# Altium integrated library NSC Interface.IntLib: 1288 symbols (part 11 of 45)
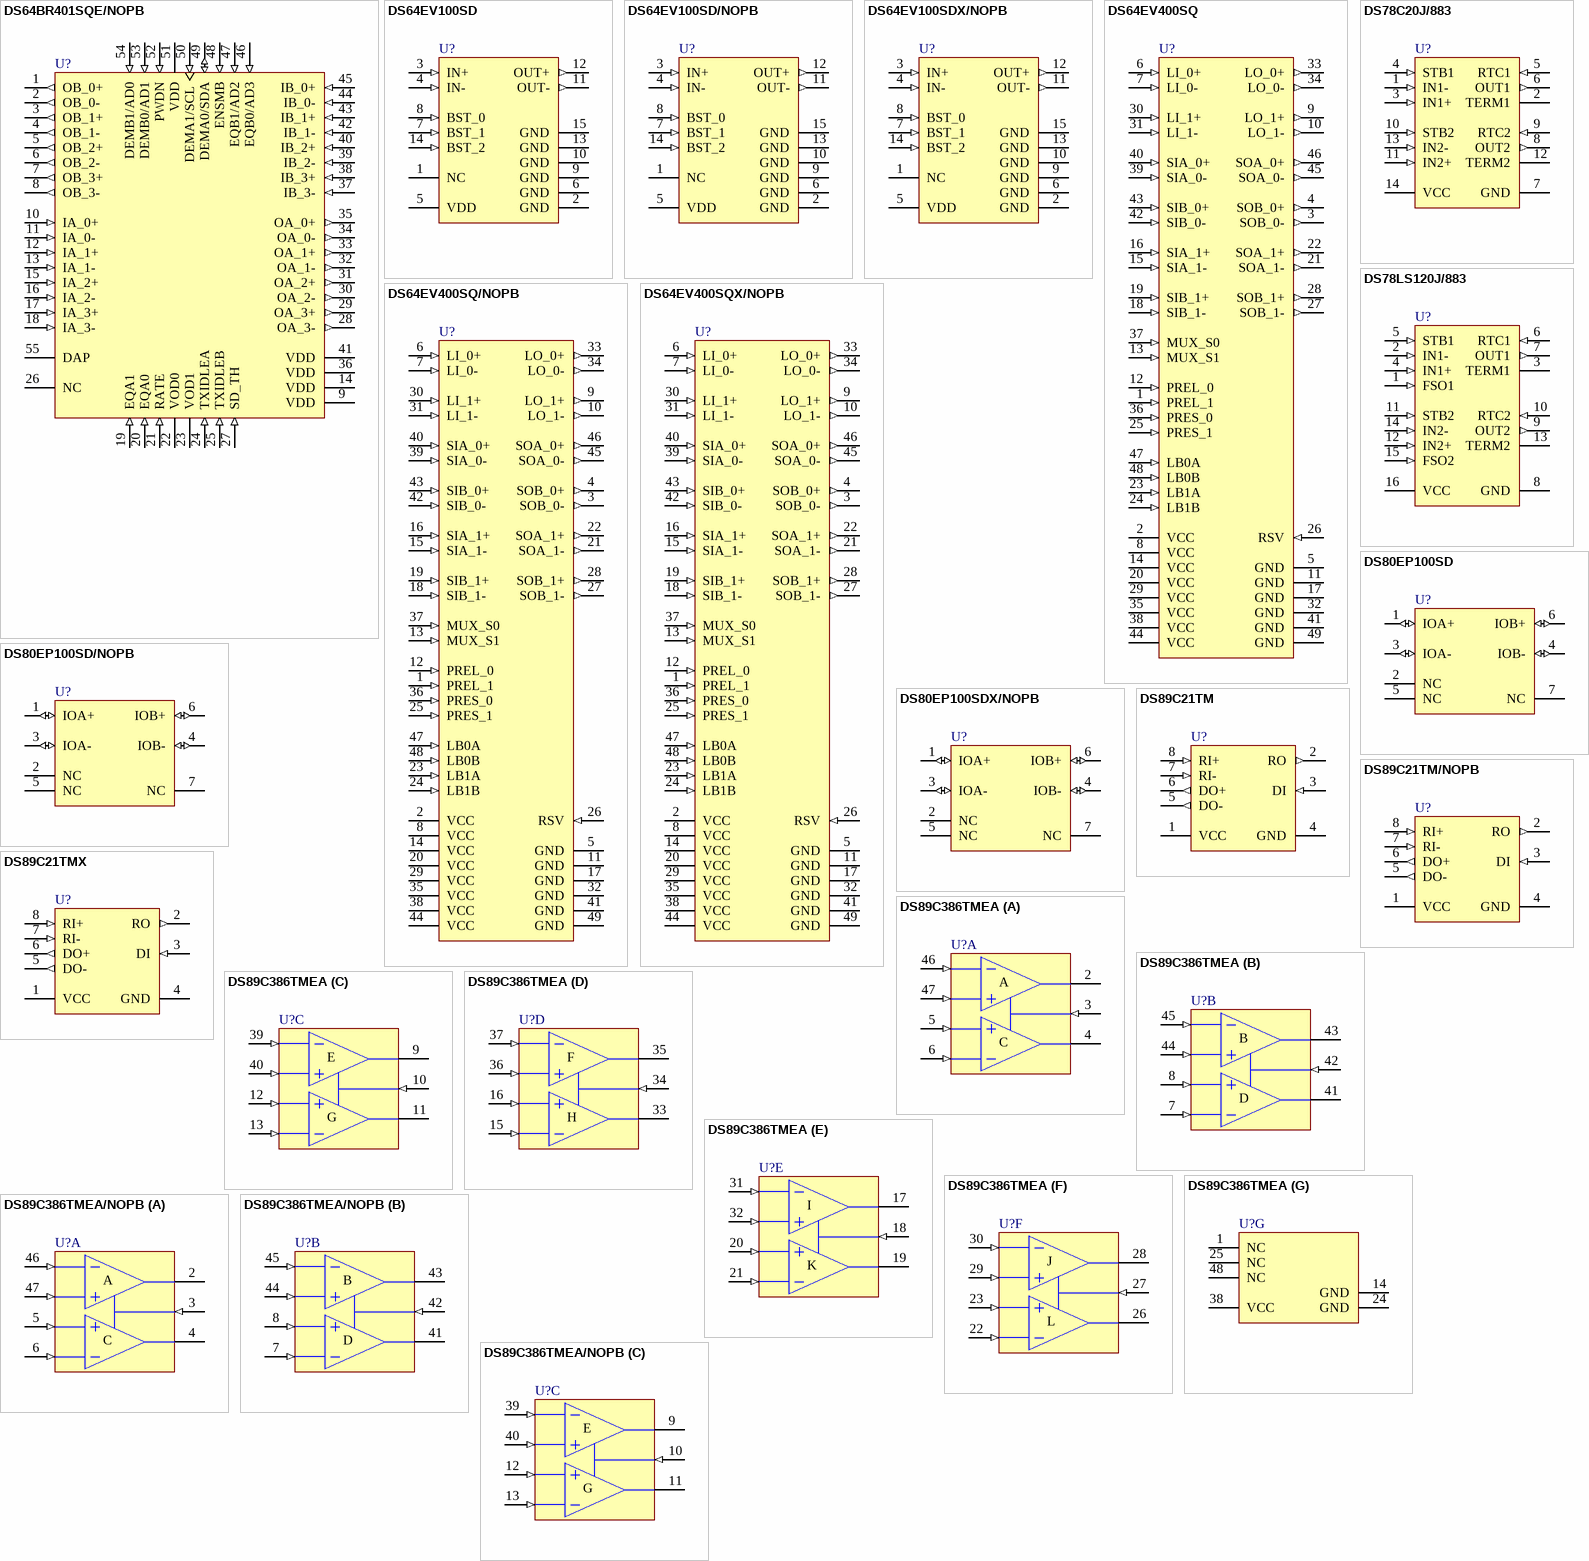
[diagram p122: symbols DS64BR401SQE/NOPB to DS89C386TMEA/NOPB]

## DS64EV400SQ
designator U?
Programmable Quad Equalizer, 48-pin LLP; PartNumber: DS64EV400SQ; Manufacturer: National Semiconductor; PackageTopMarking: NS*UZXYTT*DS64EV400; PowerWise: Y; CompType: Interface IC; Published: 4-Dec-2008; DatasheetVersion: Apr-2008; PackageVersion: revA, Jul-2004; PackageReference: SQA48D; Publisher: Altium Limited; PackageDescription: LLP, Quad, 7 x 7 x 0.8mm, 48 Lead, 0.5mm Pitch, 4.1 x 4.1 Exposed Pad; RoHS: Y; PinCount: 48; ComponentLink1Description: DS64EV400 Datasheet; ComponentLink1URL: http://www.national.com/ds/DS/DS64EV400.pdf; ComponentLink2Description: DS64EV400 Web Page; ComponentLink2URL: http://www.national.com/pf/DS/DS64EV400.html; ComponentLink3Description: SQA48D Package Page; ComponentLink3URL: http://www.national.com/packaging/folders/sqa48d.html
footprint SQA48D (QFN, 48-Leads, Body 7x7mm, Pitch 0.5mm, NSC Recommended)
pins: 1 PREL_1 (in), 2 VCC (power), 3 SOB_0- (out), 4 SOB_0+ (out), 5 GND (power), 6 LI_0+ (in), 7 LI_0- (in), 8 VCC (power), 9 LO_1+ (out), 10 LO_1- (out), 11 GND (power), 12 PREL_0 (in), 13 MUX_S1 (in), 14 VCC (power), 15 SIA_1- (in), 16 SIA_1+ (in), 17 GND (power), 18 SIB_1- (in), 19 SIB_1+ (in), 20 VCC (power), 21 SOA_1- (out), 22 SOA_1+ (out), 23 LB1A (in), 24 LB1B (in), 25 PRES_1 (in), 26 RSV (in), 27 SOB_1- (out), 28 SOB_1+ (out), 29 VCC (power), 30 LI_1+ (in), 31 LI_1- (in), 32 GND (power), 33 LO_0+ (out), 34 LO_0- (out), 35 VCC (power), 36 PRES_0 (in), 37 MUX_S0 (in), 38 VCC (power), 39 SIA_0- (in), 40 SIA_0+ (in), 41 GND (power), 42 SIB_0- (in), 43 SIB_0+ (in), 44 VCC (power), 45 SOA_0- (out), 46 SOA_0+ (out), 47 LB0A (in), 48 LB0B (in), 49 GND (power)

## DS64EV400SQ/NOPB
designator U?
Programmable Quad Equalizer, 48-pin LLP, Pb-Free; PartNumber: DS64EV400SQ/NOPB; Manufacturer: National Semiconductor; PackageTopMarking: NS*UZXYTTE#*DS64EV400; PowerWise: Y; CompType: Interface IC; Published: 1-Mar-2010; DatasheetVersion: Apr-2008; PackageVersion: revA, Jul-2004; PackageReference: SQA48D; Publisher: Altium Limited; PackageDescription: LLP, Quad, 7 x 7 x 0.8mm, 48 Lead, 0.5mm Pitch, 4.1 x 4.1 Exposed Pad; Supplier 1: Digi-Key; Supplier Part Number 1: DS64EV400SQTR-ND; Supplier 2: Digi-Key; Supplier Part Number 2: DS64EV400SQCT-ND; Supplier 3: Digi-Key; Supplier Part Number 3: DS64EV400SQDKR-ND; Supplier 4: Farnell; Supplier Part Number 4: 1685567; RoHS: Y; PinCount: 48; ComponentLink1Description: DS64EV400 Datasheet; ComponentLink1URL: http://www.national.com/ds/DS/DS64EV400.pdf; ComponentLink2Description: DS64EV400 Web Page; ComponentLink2URL: http://www.national.com/pf/DS/DS64EV400.html; ComponentLink3Description: SQA48D Package Page; ComponentLink3URL: http://www.national.com/packaging/folders/sqa48d.html
footprint SQA48D (QFN, 48-Leads, Body 7x7mm, Pitch 0.5mm, NSC Recommended)
pins: 1 PREL_1 (in), 2 VCC (power), 3 SOB_0- (out), 4 SOB_0+ (out), 5 GND (power), 6 LI_0+ (in), 7 LI_0- (in), 8 VCC (power), 9 LO_1+ (out), 10 LO_1- (out), 11 GND (power), 12 PREL_0 (in), 13 MUX_S1 (in), 14 VCC (power), 15 SIA_1- (in), 16 SIA_1+ (in), 17 GND (power), 18 SIB_1- (in), 19 SIB_1+ (in), 20 VCC (power), 21 SOA_1- (out), 22 SOA_1+ (out), 23 LB1A (in), 24 LB1B (in), 25 PRES_1 (in), 26 RSV (in), 27 SOB_1- (out), 28 SOB_1+ (out), 29 VCC (power), 30 LI_1+ (in), 31 LI_1- (in), 32 GND (power), 33 LO_0+ (out), 34 LO_0- (out), 35 VCC (power), 36 PRES_0 (in), 37 MUX_S0 (in), 38 VCC (power), 39 SIA_0- (in), 40 SIA_0+ (in), 41 GND (power), 42 SIB_0- (in), 43 SIB_0+ (in), 44 VCC (power), 45 SOA_0- (out), 46 SOA_0+ (out), 47 LB0A (in), 48 LB0B (in), 49 GND (power)

## DS64EV400SQX/NOPB
designator U?
Programmable Quad Equalizer, 48-pin LLP, Pb-Free; PartNumber: DS64EV400SQX/NOPB; Manufacturer: National Semiconductor; PackageTopMarking: NS*UZXYTTE#*DS64EV400; PowerWise: Y; CompType: Interface IC; Published: 1-Mar-2010; DatasheetVersion: Apr-2008; PackageVersion: revA, Jul-2004; PackageReference: SQA48D; Publisher: Altium Limited; PackageDescription: LLP, Quad, 7 x 7 x 0.8mm, 48 Lead, 0.5mm Pitch, 4.1 x 4.1 Exposed Pad; Supplier 1: Digi-Key; Supplier Part Number 1: DS64EV400SQX-ND; RoHS: Y; PinCount: 48; ComponentLink1Description: DS64EV400 Datasheet; ComponentLink1URL: http://www.national.com/ds/DS/DS64EV400.pdf; ComponentLink2Description: DS64EV400 Web Page; ComponentLink2URL: http://www.national.com/pf/DS/DS64EV400.html; ComponentLink3Description: SQA48D Package Page; ComponentLink3URL: http://www.national.com/packaging/folders/sqa48d.html
footprint SQA48D (QFN, 48-Leads, Body 7x7mm, Pitch 0.5mm, NSC Recommended)
pins: 1 PREL_1 (in), 2 VCC (power), 3 SOB_0- (out), 4 SOB_0+ (out), 5 GND (power), 6 LI_0+ (in), 7 LI_0- (in), 8 VCC (power), 9 LO_1+ (out), 10 LO_1- (out), 11 GND (power), 12 PREL_0 (in), 13 MUX_S1 (in), 14 VCC (power), 15 SIA_1- (in), 16 SIA_1+ (in), 17 GND (power), 18 SIB_1- (in), 19 SIB_1+ (in), 20 VCC (power), 21 SOA_1- (out), 22 SOA_1+ (out), 23 LB1A (in), 24 LB1B (in), 25 PRES_1 (in), 26 RSV (in), 27 SOB_1- (out), 28 SOB_1+ (out), 29 VCC (power), 30 LI_1+ (in), 31 LI_1- (in), 32 GND (power), 33 LO_0+ (out), 34 LO_0- (out), 35 VCC (power), 36 PRES_0 (in), 37 MUX_S0 (in), 38 VCC (power), 39 SIA_0- (in), 40 SIA_0+ (in), 41 GND (power), 42 SIB_0- (in), 43 SIB_0+ (in), 44 VCC (power), 45 SOA_0- (out), 46 SOA_0+ (out), 47 LB0A (in), 48 LB0B (in), 49 GND (power)

## DS78C20J/883
designator U?
Dual CMOS Compatible Differential Line Receiver, 14-pin CerDIP; PartNumber: DS78C20J/883; Manufacturer: National Semiconductor; PackageTopMarking: NSZSSXXYYA*DS78C20J/883 Q*5962-9321101MCA; PowerWise: N; CompType: Interface IC; High-Reliability: Y; Published: 4-Dec-2008; DatasheetVersion: May-1998; PackageVersion: revJ, Jul-2002; PackageReference: J14A; Publisher: Altium Limited; PackageDescription: Cerdip, .400 x .310in Body, 14 Lead, .300in Centers, .100in Pitch; RoHS: N; PinCount: 14; ComponentLink1Description: DS78C20 Datasheet; ComponentLink1URL: http://www.national.com/ds/DS/DS78C20.pdf; ComponentLink2Description: DS78C20 Web Page; ComponentLink2URL: http://www.national.com/pf/DS/DS78C20.html; ComponentLink3Description: J14A Package Page; ComponentLink3URL: http://www.national.com/packaging/folders/j14a.html
footprint J14A (DIP, 14-Leads, Row Spacing 7.62mm, Pitch 2.54mm, Body 19.56x6.73mm)
pins: 1 IN1- (in), 2 TERM1, 3 IN1+ (in), 4 STB1 (in), 5 RTC1 (in), 6 OUT1 (out), 7 GND (power), 8 OUT2 (out), 9 RTC2 (in), 10 STB2 (in), 11 IN2+ (in), 12 TERM2, 13 IN2- (in), 14 VCC (power)

## DS78LS120J/883
designator U?
Dual Differential Line Receiver (Noise Filtering and Fail-Safe), 16-pin CerDIP; PartNumber: DS78LS120J/883; Manufacturer: National Semiconductor; PackageTopMarking: NSZSSXXYYA*DS78LS120J/883 Q; PowerWise: N; CompType: Interface IC; High-Reliability: Y; Published: 4-Dec-2008; DatasheetVersion: Sep-1999; PackageVersion: revL, Sep-1993; PackageReference: J16A; Publisher: Altium Limited; PackageDescription: Cerdip (J), 16 Lead; RoHS: N; PinCount: 16; ComponentLink1Description: DS78LS120 Datasheet; ComponentLink1URL: http://www.national.com/ds/DS/DS78LS120.pdf; ComponentLink2Description: DS78LS120 Web Page; ComponentLink2URL: http://www.national.com/pf/DS/DS78LS120.html; ComponentLink3Description: J16A Package Page; ComponentLink3URL: http://www.national.com/packaging/folders/j16a.html
footprint J16A (DIP, 16-Leads, Row Spacing 7.62mm, Pitch 2.54mm, Body 19.56x6.73mm)
pins: 1 FSO1 (in), 2 IN1- (in), 3 TERM1, 4 IN1+ (in), 5 STB1 (in), 6 RTC1 (in), 7 OUT1 (out), 8 GND (power), 9 OUT2 (out), 10 RTC2 (in), 11 STB2 (in), 12 IN2+ (in), 13 TERM2, 14 IN2- (in), 15 FSO2 (in), 16 VCC (power)

## DS80EP100SD
designator U?
5 to 12.5 Gbps, Power-Saver Equalizer for Backplanes and Cables, 6-pin LLP; PartNumber: DS80EP100SD; Manufacturer: National Semiconductor; PackageTopMarking: XTT*80S; PowerWise: Y; CompType: Interface IC; Published: 4-Dec-2008; DatasheetVersion: May-2008; PackageVersion: revA, Nov-2003; PackageReference: SDB06A; Publisher: Altium Limited; PackageDescription: LLP, Plastic, Dual, 2.2 x 2.5 x 0.8mm Body, 6 Lead, 0.65mm Pitch, No Pullback; RoHS: Y; PinCount: 6; ComponentLink1Description: DS80EP100 Datasheet; ComponentLink1URL: http://www.national.com/ds/DS/DS80EP100.pdf; ComponentLink2Description: DS80EP100 Web Page; ComponentLink2URL: http://www.national.com/pf/DS/DS80EP100.html; ComponentLink3Description: SDB06A Package Page; ComponentLink3URL: http://www.national.com/packaging/folders/sdb06a.html
footprint SDB06A (SON, 6-Leads, Body 2.2x2.5mm, Pitch 0.65mm, NSC Recommended (SC-70 Land))
pins: 1 IOA+ (io), 2 NC, 3 IOA- (io), 4 IOB- (io), 5 NC, 6 IOB+ (io), 7 NC

## DS80EP100SD/NOPB
designator U?
5 to 12.5 Gbps, Power-Saver Equalizer for Backplanes and Cables, 6-pin LLP, Pb-Free; PartNumber: DS80EP100SD/NOPB; Manufacturer: National Semiconductor; PackageTopMarking: XTT*80S; PowerWise: Y; CompType: Interface IC; Published: 1-Mar-2010; DatasheetVersion: May-2008; PackageVersion: revA, Nov-2003; PackageReference: SDB06A; Publisher: Altium Limited; PackageDescription: LLP, Plastic, Dual, 2.2 x 2.5 x 0.8mm Body, 6 Lead, 0.65mm Pitch, No Pullback; Supplier 1: Digi-Key; Supplier Part Number 1: DS80EP100SDTR-ND; Supplier 2: Digi-Key; Supplier Part Number 2: DS80EP100SDCT-ND; Supplier 3: Digi-Key; Supplier Part Number 3: DS80EP100SDDKR-ND; RoHS: Y; PinCount: 6; ComponentLink1Description: DS80EP100 Datasheet; ComponentLink1URL: http://www.national.com/ds/DS/DS80EP100.pdf; ComponentLink2Description: DS80EP100 Web Page; ComponentLink2URL: http://www.national.com/pf/DS/DS80EP100.html; ComponentLink3Description: SDB06A Package Page; ComponentLink3URL: http://www.national.com/packaging/folders/sdb06a.html
footprint SDB06A (SON, 6-Leads, Body 2.2x2.5mm, Pitch 0.65mm, NSC Recommended (SC-70 Land))
pins: 1 IOA+ (io), 2 NC, 3 IOA- (io), 4 IOB- (io), 5 NC, 6 IOB+ (io), 7 NC

## DS80EP100SDX/NOPB
designator U?
5 to 12.5 Gbps, Power-Saver Equalizer for Backplanes and Cables, 6-pin LLP, Pb-Free; PartNumber: DS80EP100SDX/NOPB; Manufacturer: National Semiconductor; PackageTopMarking: XTT*80S; PowerWise: Y; CompType: Interface IC; Published: 1-Mar-2010; DatasheetVersion: May-2008; PackageVersion: revA, Nov-2003; PackageReference: SDB06A; Publisher: Altium Limited; PackageDescription: LLP, Plastic, Dual, 2.2 x 2.5 x 0.8mm Body, 6 Lead, 0.65mm Pitch, No Pullback; Supplier 1: Digi-Key; Supplier Part Number 1: DS80EP100SDX-ND; RoHS: Y; PinCount: 6; ComponentLink1Description: DS80EP100 Datasheet; ComponentLink1URL: http://www.national.com/ds/DS/DS80EP100.pdf; ComponentLink2Description: DS80EP100 Web Page; ComponentLink2URL: http://www.national.com/pf/DS/DS80EP100.html; ComponentLink3Description: SDB06A Package Page; ComponentLink3URL: http://www.national.com/packaging/folders/sdb06a.html
footprint SDB06A (SON, 6-Leads, Body 2.2x2.5mm, Pitch 0.65mm, NSC Recommended (SC-70 Land))
pins: 1 IOA+ (io), 2 NC, 3 IOA- (io), 4 IOB- (io), 5 NC, 6 IOB+ (io), 7 NC

## DS89C21TM
designator U?
Differential CMOS Line Driver and Receiver Pair, 8-pin Narrow SOIC; PartNumber: DS89C21TM; Manufacturer: National Semiconductor; PackageTopMarking: NSZXTT*DS89C*21TM; PowerWise: N; CompType: Interface IC; Published: 4-Dec-2008; DatasheetVersion: Jun-1998; PackageVersion: revM, May-2009; PackageReference: M08A; Publisher: Altium Limited; PackageDescription: SOIC Narrow, 4.9 x 3.9 x 1.45mm, 8 Lead, 1.27mm Pitch; Supplier 1: Farnell; Supplier Part Number 1: 3608645; RoHS: N; PinCount: 8; Code_JEDEC: MS-012-AA; Code_IPC: SOIC127P600-8; ComponentLink1Description: DS89C21 Datasheet; ComponentLink1URL: http://www.national.com/ds/DS/DS89C21.pdf; ComponentLink2Description: DS89C21 Web Page; ComponentLink2URL: http://www.national.com/pf/DS/DS89C21.html; ComponentLink3Description: M08A Package Page; ComponentLink3URL: http://www.national.com/packaging/folders/m08a.html
footprint M08A_N (SOIC, 8-Leads, Body 4.9x3.9mm, Pitch 1.27mm, IPC Medium Density)
footprint M08A_L (SOIC, 8-Leads, Body 4.9x3.9mm, Pitch 1.27mm, IPC High Density)
footprint M08A_M (SOIC, 8-Leads, Body 4.9x3.9mm, Pitch 1.27mm, IPC Low Density)
pins: 1 VCC (power), 2 RO (out), 3 DI (in), 4 GND (power), 5 DO- (out), 6 DO+ (out), 7 RI- (in), 8 RI+ (in)

## DS89C21TM/NOPB
designator U?
Differential CMOS Line Driver and Receiver Pair, 8-pin Narrow SOIC, Pb-Free; PartNumber: DS89C21TM/NOPB; Manufacturer: National Semiconductor; PackageTopMarking: NSZXTT*DS89C*21TM; PowerWise: N; CompType: Interface IC; Published: 1-Mar-2010; DatasheetVersion: Jun-1998; PackageVersion: revM, May-2009; PackageReference: M08A; Publisher: Altium Limited; PackageDescription: SOIC Narrow, 4.9 x 3.9 x 1.45mm, 8 Lead, 1.27mm Pitch; Supplier 1: Digi-Key; Supplier Part Number 1: DS89C21TM-ND; Supplier 2: Farnell; Supplier Part Number 2: 1469012; RoHS: Y; PinCount: 8; Code_JEDEC: MS-012-AA; Code_IPC: SOIC127P600-8; ComponentLink1Description: DS89C21 Datasheet; ComponentLink1URL: http://www.national.com/ds/DS/DS89C21.pdf; ComponentLink2Description: DS89C21 Web Page; ComponentLink2URL: http://www.national.com/pf/DS/DS89C21.html; ComponentLink3Description: M08A Package Page; ComponentLink3URL: http://www.national.com/packaging/folders/m08a.html
footprint M08A_N (SOIC, 8-Leads, Body 4.9x3.9mm, Pitch 1.27mm, IPC Medium Density)
footprint M08A_L (SOIC, 8-Leads, Body 4.9x3.9mm, Pitch 1.27mm, IPC High Density)
footprint M08A_M (SOIC, 8-Leads, Body 4.9x3.9mm, Pitch 1.27mm, IPC Low Density)
pins: 1 VCC (power), 2 RO (out), 3 DI (in), 4 GND (power), 5 DO- (out), 6 DO+ (out), 7 RI- (in), 8 RI+ (in)

## DS89C21TMX
designator U?
Differential CMOS Line Driver and Receiver Pair, 8-pin Narrow SOIC; PartNumber: DS89C21TMX; Manufacturer: National Semiconductor; PackageTopMarking: NSZXTT*DS89C*21TM; PowerWise: N; CompType: Interface IC; Published: 1-Mar-2010; DatasheetVersion: Jun-1998; PackageVersion: revM, May-2009; PackageReference: M08A; Publisher: Altium Limited; PackageDescription: SOIC Narrow, 4.9 x 3.9 x 1.45mm, 8 Lead, 1.27mm Pitch; RoHS: N; PinCount: 8; Code_JEDEC: MS-012-AA; Code_IPC: SOIC127P600-8; ComponentLink1Description: DS89C21 Datasheet; ComponentLink1URL: http://www.national.com/ds/DS/DS89C21.pdf; ComponentLink2Description: DS89C21 Web Page; ComponentLink2URL: http://www.national.com/pf/DS/DS89C21.html; ComponentLink3Description: M08A Package Page; ComponentLink3URL: http://www.national.com/packaging/folders/m08a.html
footprint M08A_N (SOIC, 8-Leads, Body 4.9x3.9mm, Pitch 1.27mm, IPC Medium Density)
footprint M08A_L (SOIC, 8-Leads, Body 4.9x3.9mm, Pitch 1.27mm, IPC High Density)
footprint M08A_M (SOIC, 8-Leads, Body 4.9x3.9mm, Pitch 1.27mm, IPC Low Density)
pins: 1 VCC (power), 2 RO (out), 3 DI (in), 4 GND (power), 5 DO- (out), 6 DO+ (out), 7 RI- (in), 8 RI+ (in)

## DS89C386TMEA
designator U?
Twelve Channel CMOS Differential Line Receiver, 48-pin SSOP; PartNumber: DS89C386TMEA; Manufacturer: National Semiconductor; PackageTopMarking: NSUZXYTTE#*DS89C386T*MEA; PowerWise: N; CompType: Interface IC; Published: 4-Dec-2008; DatasheetVersion: Oct-2001; PackageVersion: revF, Sep-2005; PackageReference: MS48A; Publisher: Altium Limited; PackageDescription: SSOP, .295 x .625 x .09in Body, 48 Lead, .025in Pitch; RoHS: N; PinCount: 48; Code_IPC: SOP635P1035-48; ComponentLink1Description: DS89C386 Datasheet; ComponentLink1URL: http://www.national.com/ds/DS/DS89C386.pdf; ComponentLink2Description: DS89C386 Web Page; ComponentLink2URL: http://www.national.com/pf/DS/DS89C386.html; ComponentLink3Description: MS48A Package Page; ComponentLink3URL: http://www.national.com/packaging/folders/ms48a.html
footprint MS48A_N (SOP, 48-Leads, Body 15.9x7.5mm, Pitch 0.635mm, IPC Medium Density)
footprint MS48A_L (SOP, 48-Leads, Body 15.9x7.5mm, Pitch 0.635mm, IPC High Density)
footprint MS48A_M (SOP, 48-Leads, Body 15.9x7.5mm, Pitch 0.635mm, IPC Low Density)
part A pins: 2 RO (hiz), 3 EN (in), 4 RO (hiz), 5 RI+ (in), 6 RI- (in), 46 RI- (in), 47 RI+ (in)
part B pins: 7 RI- (in), 8 RI+ (in), 41 RO (hiz), 42 EN (in), 43 RO (hiz), 44 RI+ (in), 45 RI- (in)
part C pins: 9 RO (hiz), 10 EN (in), 11 RO (hiz), 12 RI+ (in), 13 RI- (in), 39 RI- (in), 40 RI+ (in)
part D pins: 15 RI- (in), 16 RI+ (in), 33 RO (hiz), 34 EN (in), 35 RO (hiz), 36 RI+ (in), 37 RI- (in)
part E pins: 17 RO (hiz), 18 EN (in), 19 RO (hiz), 20 RI+ (in), 21 RI- (in), 31 RI- (in), 32 RI+ (in)
part F pins: 22 RI- (in), 23 RI+ (in), 26 RO (hiz), 27 EN (in), 28 RO (hiz), 29 RI+ (in), 30 RI- (in)
part G pins: 1 NC, 14 GND (power), 24 GND (power), 25 NC, 38 VCC (power), 48 NC
part A text: A; C
part B text: B; D
part C text: E; G
part D text: F; H
part E text: I; K
part F text: J; L

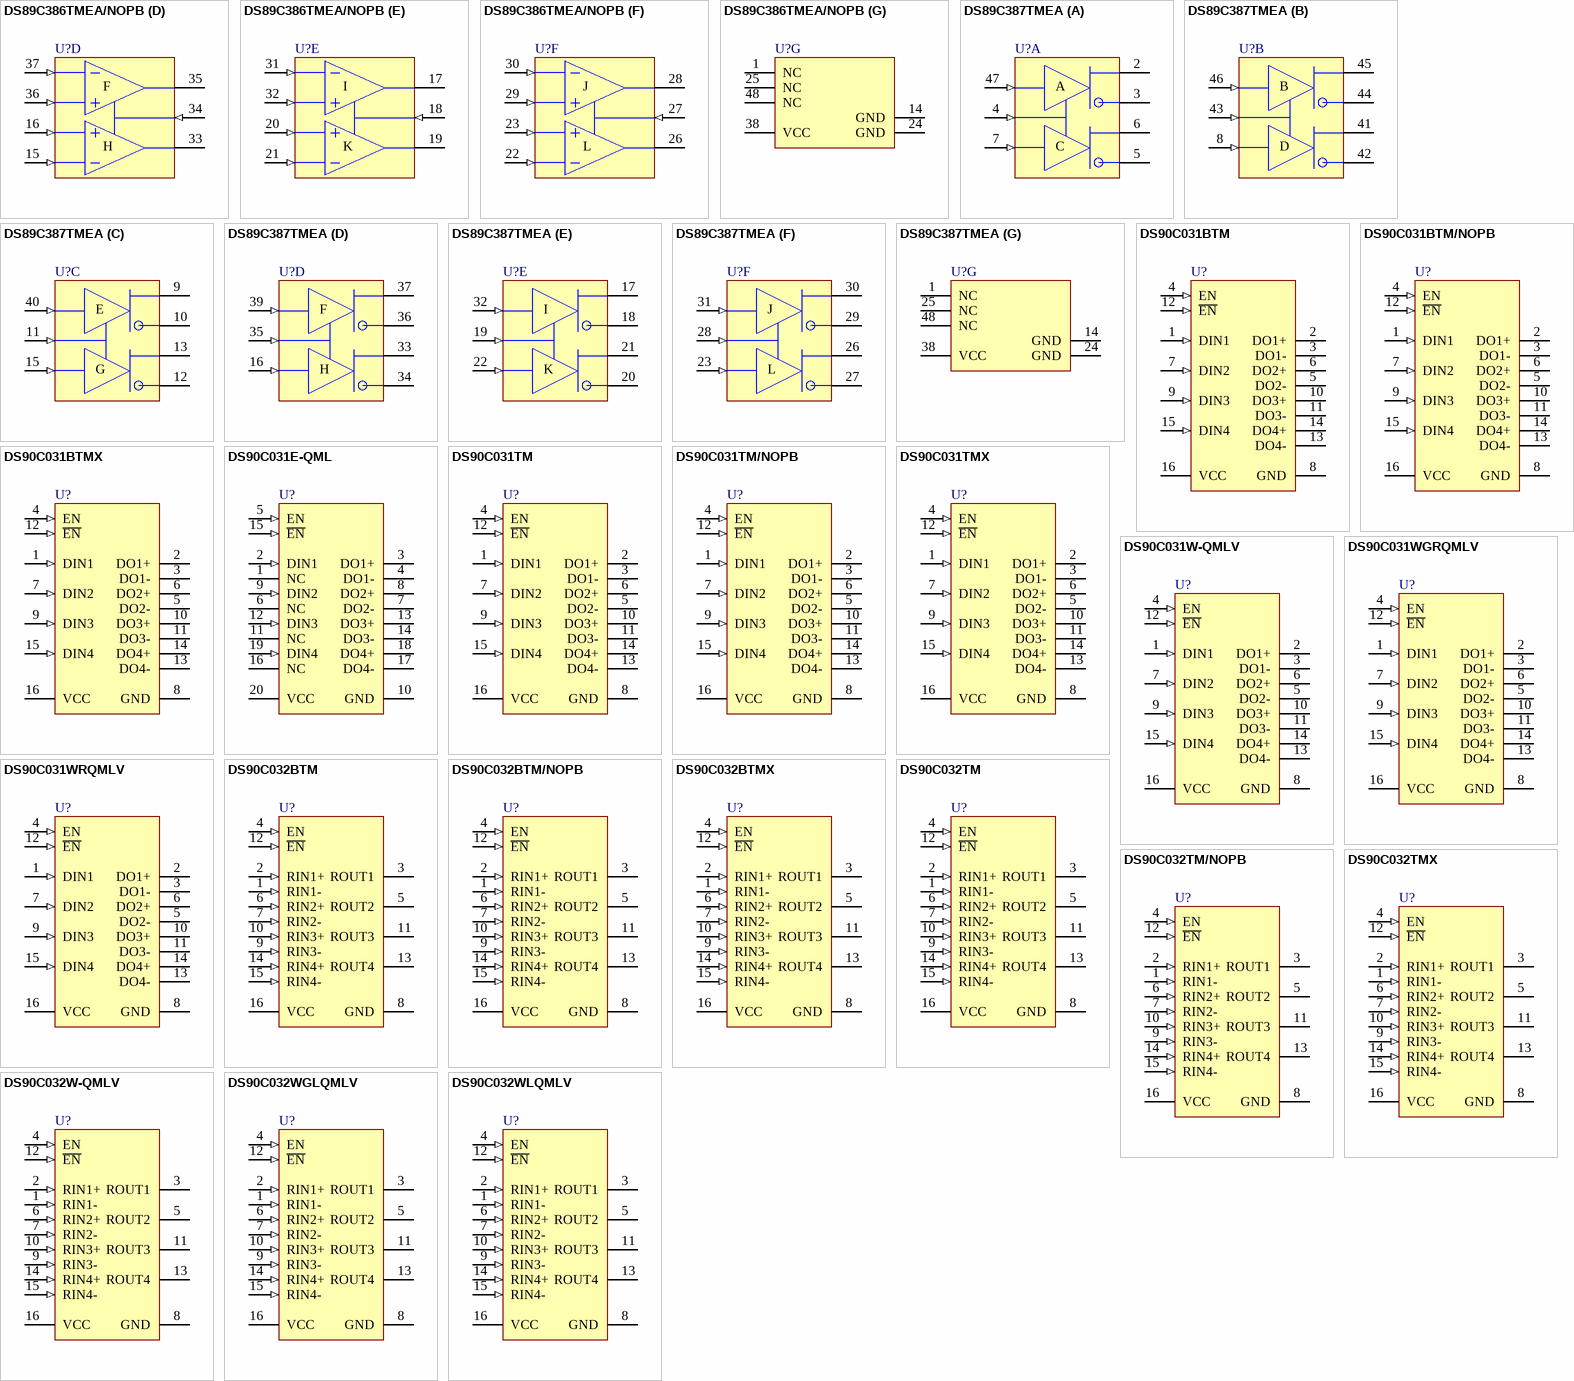
[diagram p26: symbols DS89C386TMEA/NOPB to DS90C032WLQMLV]

## DS89C386TMEA/NOPB
designator U?
Twelve Channel CMOS Differential Line Receiver, 48-pin SSOP, Pb-Free; PartNumber: DS89C386TMEA/NOPB; Manufacturer: National Semiconductor; PackageTopMarking: NSUZXYTTE#*DS89C386T*MEA; PowerWise: N; CompType: Interface IC; Published: 1-Mar-2010; DatasheetVersion: Oct-2001; PackageVersion: revF, Sep-2005; PackageReference: MS48A; Publisher: Altium Limited; PackageDescription: SSOP, .295 x .625 x .09in Body, 48 Lead, .025in Pitch; Supplier 1: Digi-Key; Supplier Part Number 1: DS89C386TMEA-ND; RoHS: Y; PinCount: 48; Code_IPC: SOP635P1035-48; ComponentLink1Description: DS89C386 Datasheet; ComponentLink1URL: http://www.national.com/ds/DS/DS89C386.pdf; ComponentLink2Description: DS89C386 Web Page; ComponentLink2URL: http://www.national.com/pf/DS/DS89C386.html; ComponentLink3Description: MS48A Package Page; ComponentLink3URL: http://www.national.com/packaging/folders/ms48a.html
footprint MS48A_N (SOP, 48-Leads, Body 15.9x7.5mm, Pitch 0.635mm, IPC Medium Density)
footprint MS48A_L (SOP, 48-Leads, Body 15.9x7.5mm, Pitch 0.635mm, IPC High Density)
footprint MS48A_M (SOP, 48-Leads, Body 15.9x7.5mm, Pitch 0.635mm, IPC Low Density)
part A pins: 2 RO (hiz), 3 EN (in), 4 RO (hiz), 5 RI+ (in), 6 RI- (in), 46 RI- (in), 47 RI+ (in)
part B pins: 7 RI- (in), 8 RI+ (in), 41 RO (hiz), 42 EN (in), 43 RO (hiz), 44 RI+ (in), 45 RI- (in)
part C pins: 9 RO (hiz), 10 EN (in), 11 RO (hiz), 12 RI+ (in), 13 RI- (in), 39 RI- (in), 40 RI+ (in)
part D pins: 15 RI- (in), 16 RI+ (in), 33 RO (hiz), 34 EN (in), 35 RO (hiz), 36 RI+ (in), 37 RI- (in)
part E pins: 17 RO (hiz), 18 EN (in), 19 RO (hiz), 20 RI+ (in), 21 RI- (in), 31 RI- (in), 32 RI+ (in)
part F pins: 22 RI- (in), 23 RI+ (in), 26 RO (hiz), 27 EN (in), 28 RO (hiz), 29 RI+ (in), 30 RI- (in)
part G pins: 1 NC, 14 GND (power), 24 GND (power), 25 NC, 38 VCC (power), 48 NC
part A text: A; C
part B text: B; D
part C text: E; G
part D text: F; H
part E text: I; K
part F text: J; L

## DS89C387TMEA
designator U?
Twelve Channel CMOS Differential Line Driver, 48-pin SSOP; PartNumber: DS89C387TMEA; Manufacturer: National Semiconductor; PackageTopMarking: NSUZXYTTE#*DS89C387T*MEA; PowerWise: N; CompType: Interface IC; Published: 4-Dec-2008; DatasheetVersion: Dec-2006; PackageVersion: revF, Sep-2005; PackageReference: MS48A; Publisher: Altium Limited; PackageDescription: SSOP, .295 x .625 x .09in Body, 48 Lead, .025in Pitch; RoHS: N; PinCount: 48; Code_IPC: SOP635P1035-48; ComponentLink1Description: DS89C387 Datasheet; ComponentLink1URL: http://www.national.com/ds/DS/DS89C387.pdf; ComponentLink2Description: DS89C387 Web Page; ComponentLink2URL: http://www.national.com/pf/DS/DS89C387.html; ComponentLink3Description: MS48A Package Page; ComponentLink3URL: http://www.national.com/packaging/folders/ms48a.html
footprint MS48A_N (SOP, 48-Leads, Body 15.9x7.5mm, Pitch 0.635mm, IPC Medium Density)
footprint MS48A_L (SOP, 48-Leads, Body 15.9x7.5mm, Pitch 0.635mm, IPC High Density)
footprint MS48A_M (SOP, 48-Leads, Body 15.9x7.5mm, Pitch 0.635mm, IPC Low Density)
part A pins: 2 DO (hiz), 3 ~{DO} (hiz), 4 EN (in), 5 ~{DO} (hiz), 6 DO (hiz), 7 DI (in), 47 DI (in)
part B pins: 8 DI (in), 41 DO (hiz), 42 ~{DO} (hiz), 43 EN (in), 44 ~{DO} (hiz), 45 DO (hiz), 46 DI (in)
part C pins: 9 DO (hiz), 10 ~{DO} (hiz), 11 EN (in), 12 ~{DO} (hiz), 13 DO (hiz), 15 DI (in), 40 DI (in)
part D pins: 16 DI (in), 33 DO (hiz), 34 ~{DO} (hiz), 35 EN (in), 36 ~{DO} (hiz), 37 DO (hiz), 39 DI (in)
part E pins: 17 DO (hiz), 18 ~{DO} (hiz), 19 EN (in), 20 ~{DO} (hiz), 21 DO (hiz), 22 DI (in), 32 DI (in)
part F pins: 23 DI (in), 26 DO (hiz), 27 ~{DO} (hiz), 28 EN (in), 29 ~{DO} (hiz), 30 DO (hiz), 31 DI (in)
part G pins: 1 NC, 14 GND (power), 24 GND (power), 25 NC, 38 VCC (power), 48 NC
part A text: A; C
part B text: B; D
part C text: E; G
part D text: F; H
part E text: I; K
part F text: J; L

## DS90C031BTM
designator U?
LVDS Quad CMOS Differential Line Driver, 16-pin Narrow SOIC; PartNumber: DS90C031BTM; Manufacturer: National Semiconductor; PackageTopMarking: NSUZXYTTE#*DS90C031BTM; PowerWise: N; CompType: Interface IC; Published: 4-Dec-2008; DatasheetVersion: Oct-2001; PackageVersion: revJ, Aug-1995; PackageReference: M16A; Publisher: Altium Limited; PackageDescription: Molded Package, SO, .150in Wide, 16 Lead; RoHS: N; PinCount: 16; Code_JEDEC: MS-012-AC; Code_IPC: SOIC127P600-16; ComponentLink1Description: DS90C031B Datasheet; ComponentLink1URL: http://www.national.com/ds/DS/DS90C031B.pdf; ComponentLink2Description: DS90C031B Web Page; ComponentLink2URL: http://www.national.com/pf/DS/DS90C031B.html; ComponentLink3Description: M16A Package Page; ComponentLink3URL: http://www.national.com/packaging/folders/m16a.html
footprint M16A_N (SOIC, 16-Leads, Body 9.9x3.9mm, Pitch 1.27mm, IPC Medium Density)
footprint M16A_L (SOIC, 16-Leads, Body 9.9x3.9mm, Pitch 1.27mm, IPC High Density)
footprint M16A_M (SOIC, 16-Leads, Body 9.9x3.9mm, Pitch 1.27mm, IPC Low Density)
pins: 1 DIN1 (in), 2 DO1+ (hiz), 3 DO1- (hiz), 4 EN (in), 5 DO2- (hiz), 6 DO2+ (hiz), 7 DIN2 (in), 8 GND (power), 9 DIN3 (in), 10 DO3+ (hiz), 11 DO3- (hiz), 12 ~{EN} (in), 13 DO4- (hiz), 14 DO4+ (hiz), 15 DIN4 (in), 16 VCC (power)

## DS90C031BTM/NOPB
designator U?
LVDS Quad CMOS Differential Line Driver, 16-pin Narrow SOIC, Pb-Free; PartNumber: DS90C031BTM/NOPB; Manufacturer: National Semiconductor; PackageTopMarking: NSUZXYTTE#*DS90C031BTM; PowerWise: N; CompType: Interface IC; Published: 1-Mar-2010; DatasheetVersion: Oct-2001; PackageVersion: revJ, Aug-1995; PackageReference: M16A; Publisher: Altium Limited; PackageDescription: Molded Package, SO, .150in Wide, 16 Lead; Supplier 1: Digi-Key; Supplier Part Number 1: DS90C031BTM-ND; Supplier 2: Farnell; Supplier Part Number 2: 1468971; RoHS: Y; PinCount: 16; Code_JEDEC: MS-012-AC; Code_IPC: SOIC127P600-16; ComponentLink1Description: DS90C031B Datasheet; ComponentLink1URL: http://www.national.com/ds/DS/DS90C031B.pdf; ComponentLink2Description: DS90C031B Web Page; ComponentLink2URL: http://www.national.com/pf/DS/DS90C031B.html; ComponentLink3Description: M16A Package Page; ComponentLink3URL: http://www.national.com/packaging/folders/m16a.html
footprint M16A_N (SOIC, 16-Leads, Body 9.9x3.9mm, Pitch 1.27mm, IPC Medium Density)
footprint M16A_L (SOIC, 16-Leads, Body 9.9x3.9mm, Pitch 1.27mm, IPC High Density)
footprint M16A_M (SOIC, 16-Leads, Body 9.9x3.9mm, Pitch 1.27mm, IPC Low Density)
pins: 1 DIN1 (in), 2 DO1+ (hiz), 3 DO1- (hiz), 4 EN (in), 5 DO2- (hiz), 6 DO2+ (hiz), 7 DIN2 (in), 8 GND (power), 9 DIN3 (in), 10 DO3+ (hiz), 11 DO3- (hiz), 12 ~{EN} (in), 13 DO4- (hiz), 14 DO4+ (hiz), 15 DIN4 (in), 16 VCC (power)

## DS90C031BTMX
designator U?
LVDS Quad CMOS Differential Line Driver, 16-pin Narrow SOIC; PartNumber: DS90C031BTMX; Manufacturer: National Semiconductor; PackageTopMarking: NSUZXYTTE#*DS90C031BTM; PowerWise: N; CompType: Interface IC; Published: 1-Mar-2010; DatasheetVersion: Oct-2001; PackageVersion: revJ, Aug-1995; PackageReference: M16A; Publisher: Altium Limited; PackageDescription: Molded Package, SO, .150in Wide, 16 Lead; RoHS: N; PinCount: 16; Code_JEDEC: MS-012-AC; Code_IPC: SOIC127P600-16; ComponentLink1Description: DS90C031B Datasheet; ComponentLink1URL: http://www.national.com/ds/DS/DS90C031B.pdf; ComponentLink2Description: DS90C031B Web Page; ComponentLink2URL: http://www.national.com/pf/DS/DS90C031B.html; ComponentLink3Description: M16A Package Page; ComponentLink3URL: http://www.national.com/packaging/folders/m16a.html
footprint M16A_N (SOIC, 16-Leads, Body 9.9x3.9mm, Pitch 1.27mm, IPC Medium Density)
footprint M16A_L (SOIC, 16-Leads, Body 9.9x3.9mm, Pitch 1.27mm, IPC High Density)
footprint M16A_M (SOIC, 16-Leads, Body 9.9x3.9mm, Pitch 1.27mm, IPC Low Density)
pins: 1 DIN1 (in), 2 DO1+ (hiz), 3 DO1- (hiz), 4 EN (in), 5 DO2- (hiz), 6 DO2+ (hiz), 7 DIN2 (in), 8 GND (power), 9 DIN3 (in), 10 DO3+ (hiz), 11 DO3- (hiz), 12 ~{EN} (in), 13 DO4- (hiz), 14 DO4+ (hiz), 15 DIN4 (in), 16 VCC (power)

## DS90C031E-QML
designator U?
LVDS Quad CMOS Differential Line Driver, 20-pin LCC; PartNumber: DS90C031E-QML; Manufacturer: National Semiconductor; PackageTopMarking: NSZSSXXYYA*5962-95833*01Q2A*DS90C031E*-QML Q; PowerWise: N; CompType: Interface IC; High-Reliability: Y; Published: 4-Dec-2008; DatasheetVersion: Jun-1998; PackageVersion: revF, May-2004; PackageReference: E20A; Publisher: Altium Limited; PackageDescription: Leadless Chip Carrier, Type C, 20 Terminal; RoHS: N; PinCount: 20; Code_JEDEC: MS-004-CB; ComponentLink1Description: DS90C031 Datasheet; ComponentLink1URL: http://www.national.com/ds/DS/DS90C031QML.pdf; ComponentLink2Description: DS90C031 Web Page; ComponentLink2URL: http://www.national.com/pf/DS/DS90C031.html; ComponentLink3Description: E20A Package Page; ComponentLink3URL: http://www.national.com/packaging/folders/e20a.html
footprint E20A_N (Leadless Chip Carrier, 20-Leads, Body 8.9x8.9mm, Pitch 1.27mm, IPC Medium Density)
footprint E20A_L (Leadless Chip Carrier, 20-Leads, Body 8.9x8.9mm, Pitch 1.27mm, IPC High Density)
footprint E20A_M (Leadless Chip Carrier, 20-Leads, Body 8.9x8.9mm, Pitch 1.27mm, IPC Low Density)
pins: 1 NC, 2 DIN1 (in), 3 DO1+ (hiz), 4 DO1- (hiz), 5 EN (in), 6 NC, 7 DO2- (hiz), 8 DO2+ (hiz), 9 DIN2 (in), 10 GND (power), 11 NC, 12 DIN3 (in), 13 DO3+ (hiz), 14 DO3- (hiz), 15 ~{EN} (in), 16 NC, 17 DO4- (hiz), 18 DO4+ (hiz), 19 DIN4 (in), 20 VCC (power)

## DS90C031TM
designator U?
LVDS Quad CMOS Differential Line Driver, 16-pin Narrow SOIC; PartNumber: DS90C031TM; Manufacturer: National Semiconductor; PackageTopMarking: NSUZXYTTE#*DS90C031TM; PowerWise: N; CompType: Interface IC; Published: 4-Dec-2008; DatasheetVersion: Jun-1998; PackageVersion: revJ, Aug-1995; PackageReference: M16A; Publisher: Altium Limited; PackageDescription: Molded Package, SO, .150in Wide, 16 Lead; Supplier 1: Farnell; Supplier Part Number 1: 9490108; RoHS: N; PinCount: 16; Code_JEDEC: MS-012-AC; Code_IPC: SOIC127P600-16; ComponentLink1Description: DS90C031 Datasheet; ComponentLink1URL: http://www.national.com/ds/DS/DS90C031.pdf; ComponentLink2Description: DS90C031 Web Page; ComponentLink2URL: http://www.national.com/pf/DS/DS90C031.html; ComponentLink3Description: M16A Package Page; ComponentLink3URL: http://www.national.com/packaging/folders/m16a.html
footprint M16A_N (SOIC, 16-Leads, Body 9.9x3.9mm, Pitch 1.27mm, IPC Medium Density)
footprint M16A_L (SOIC, 16-Leads, Body 9.9x3.9mm, Pitch 1.27mm, IPC High Density)
footprint M16A_M (SOIC, 16-Leads, Body 9.9x3.9mm, Pitch 1.27mm, IPC Low Density)
pins: 1 DIN1 (in), 2 DO1+ (hiz), 3 DO1- (hiz), 4 EN (in), 5 DO2- (hiz), 6 DO2+ (hiz), 7 DIN2 (in), 8 GND (power), 9 DIN3 (in), 10 DO3+ (hiz), 11 DO3- (hiz), 12 ~{EN} (in), 13 DO4- (hiz), 14 DO4+ (hiz), 15 DIN4 (in), 16 VCC (power)

## DS90C031TM/NOPB
designator U?
LVDS Quad CMOS Differential Line Driver, 16-pin Narrow SOIC, Pb-Free; PartNumber: DS90C031TM/NOPB; Manufacturer: National Semiconductor; PackageTopMarking: NSUZXYTTE#*DS90C031TM; PowerWise: N; CompType: Interface IC; Published: 1-Mar-2010; DatasheetVersion: Jun-1998; PackageVersion: revJ, Aug-1995; PackageReference: M16A; Publisher: Altium Limited; PackageDescription: Molded Package, SO, .150in Wide, 16 Lead; Supplier 1: Digi-Key; Supplier Part Number 1: DS90C031TM-ND; Supplier 2: Farnell; Supplier Part Number 2: 1468973; RoHS: Y; PinCount: 16; Code_JEDEC: MS-012-AC; Code_IPC: SOIC127P600-16; ComponentLink1Description: DS90C031 Datasheet; ComponentLink1URL: http://www.national.com/ds/DS/DS90C031.pdf; ComponentLink2Description: DS90C031 Web Page; ComponentLink2URL: http://www.national.com/pf/DS/DS90C031.html; ComponentLink3Description: M16A Package Page; ComponentLink3URL: http://www.national.com/packaging/folders/m16a.html
footprint M16A_N (SOIC, 16-Leads, Body 9.9x3.9mm, Pitch 1.27mm, IPC Medium Density)
footprint M16A_L (SOIC, 16-Leads, Body 9.9x3.9mm, Pitch 1.27mm, IPC High Density)
footprint M16A_M (SOIC, 16-Leads, Body 9.9x3.9mm, Pitch 1.27mm, IPC Low Density)
pins: 1 DIN1 (in), 2 DO1+ (hiz), 3 DO1- (hiz), 4 EN (in), 5 DO2- (hiz), 6 DO2+ (hiz), 7 DIN2 (in), 8 GND (power), 9 DIN3 (in), 10 DO3+ (hiz), 11 DO3- (hiz), 12 ~{EN} (in), 13 DO4- (hiz), 14 DO4+ (hiz), 15 DIN4 (in), 16 VCC (power)

## DS90C031TMX
designator U?
LVDS Quad CMOS Differential Line Driver, 16-pin Narrow SOIC; PartNumber: DS90C031TMX; Manufacturer: National Semiconductor; PackageTopMarking: NSUZXYTTE#*DS90C031TM; PowerWise: N; CompType: Interface IC; Published: 1-Mar-2010; DatasheetVersion: Jun-1998; PackageVersion: revJ, Aug-1995; PackageReference: M16A; Publisher: Altium Limited; PackageDescription: Molded Package, SO, .150in Wide, 16 Lead; RoHS: N; PinCount: 16; Code_JEDEC: MS-012-AC; Code_IPC: SOIC127P600-16; ComponentLink1Description: DS90C031 Datasheet; ComponentLink1URL: http://www.national.com/ds/DS/DS90C031.pdf; ComponentLink2Description: DS90C031 Web Page; ComponentLink2URL: http://www.national.com/pf/DS/DS90C031.html; ComponentLink3Description: M16A Package Page; ComponentLink3URL: http://www.national.com/packaging/folders/m16a.html
footprint M16A_N (SOIC, 16-Leads, Body 9.9x3.9mm, Pitch 1.27mm, IPC Medium Density)
footprint M16A_L (SOIC, 16-Leads, Body 9.9x3.9mm, Pitch 1.27mm, IPC High Density)
footprint M16A_M (SOIC, 16-Leads, Body 9.9x3.9mm, Pitch 1.27mm, IPC Low Density)
pins: 1 DIN1 (in), 2 DO1+ (hiz), 3 DO1- (hiz), 4 EN (in), 5 DO2- (hiz), 6 DO2+ (hiz), 7 DIN2 (in), 8 GND (power), 9 DIN3 (in), 10 DO3+ (hiz), 11 DO3- (hiz), 12 ~{EN} (in), 13 DO4- (hiz), 14 DO4+ (hiz), 15 DIN4 (in), 16 VCC (power)

## DS90C031W-QMLV
designator U?
LVDS Quad CMOS Differential Line Driver, 16-pin CerPACK; PartNumber: DS90C031W-QMLV; Manufacturer: National Semiconductor; PackageTopMarking: NSZSSXXYYA*DS90C031W-*QV Q 5962-*9583301VFA; PowerWise: N; CompType: Interface IC; High-Reliability: Y; Published: 29-May-2009; DatasheetVersion: Mar-06; PackageVersion: revT, Jul-2005; PackageReference: W16A; Publisher: Altium Limited; PackageDescription: Cerpack, .390 x .250 x .074in Body, 16 Lead, .050in Pitch; RoHS: N; PinCount: 16; Code_JEDEC: MO-092-AC; ComponentLink1Description: DS90C031 Datasheet; ComponentLink1URL: http://www.national.com/ds/DS/DS90C031QML.pdf; ComponentLink2Description: DS90C031 Web Page; ComponentLink2URL: http://www.national.com/pf/DS/DS90C031.html; ComponentLink3Description: W16A Package Page; ComponentLink3URL: http://www.national.com/packaging/folders/w16a.html
footprint W16A (DFP; 16 Leads; Body 9.9 x 7.6 mm (LxW max); Pitch 1.27 mm)
pins: 1 DIN1 (in), 2 DO1+ (hiz), 3 DO1- (hiz), 4 EN (in), 5 DO2- (hiz), 6 DO2+ (hiz), 7 DIN2 (in), 8 GND (power), 9 DIN3 (in), 10 DO3+ (hiz), 11 DO3- (hiz), 12 ~{EN} (in), 13 DO4- (hiz), 14 DO4+ (hiz), 15 DIN4 (in), 16 VCC (power)

## DS90C031WGRQMLV
designator U?
LVDS Quad CMOS Differential Line Driver, 16-pin CerPACK; PartNumber: DS90C031WGRQMLV; Manufacturer: National Semiconductor; PackageTopMarking: NSZSSXXYYA*DS90C031WGR*QV Q 5962R*9583301VZA; PowerWise: N; CompType: Interface IC; High-Reliability: Y; Published: 29-May-2009; DatasheetVersion: Mar-06; PackageVersion: revE, Jul-2007; PackageReference: WG16A; Publisher: Altium Limited; PackageDescription: Cerpack, .390 x .250 x .070in, 16 Lead, .050in Pitch, Gull Wing; RoHS: N; PinCount: 16; ComponentLink1Description: DS90C031 Datasheet; ComponentLink1URL: http://www.national.com/ds/DS/DS90C031QML.pdf; ComponentLink2Description: DS90C031 Web Page; ComponentLink2URL: http://www.national.com/pf/DS/DS90C031.html; ComponentLink3Description: WG16A Package Page; ComponentLink3URL: http://www.national.com/packaging/folders/wg16a.html
footprint WG16A_N (CERPACK, 16-Leads, Body 9.9x6.5mm, Pitch 1.27mm, IPC Medium Density)
footprint WG16A_L (CERPACK, 16-Leads, Body 9.9x6.5mm, Pitch 1.27mm, IPC High Density)
footprint WG16A_M (CERPACK, 16-Leads, Body 9.9x6.5mm, Pitch 1.27mm, IPC Low Density)
pins: 1 DIN1 (in), 2 DO1+ (hiz), 3 DO1- (hiz), 4 EN (in), 5 DO2- (hiz), 6 DO2+ (hiz), 7 DIN2 (in), 8 GND (power), 9 DIN3 (in), 10 DO3+ (hiz), 11 DO3- (hiz), 12 ~{EN} (in), 13 DO4- (hiz), 14 DO4+ (hiz), 15 DIN4 (in), 16 VCC (power)

## DS90C031WRQMLV
designator U?
LVDS Quad CMOS Differential Line Driver, 16-pin CerPACK; PartNumber: DS90C031WRQMLV; Manufacturer: National Semiconductor; PackageTopMarking: NSZSSXXYYA*DS90C031WR*QV Q 5962R*9583301VFA; PowerWise: N; CompType: Interface IC; High-Reliability: Y; Published: 29-May-2009; DatasheetVersion: Mar-06; PackageVersion: revT, Jul-2005; PackageReference: W16A; Publisher: Altium Limited; PackageDescription: Cerpack, .390 x .250 x .074in Body, 16 Lead, .050in Pitch; RoHS: N; PinCount: 16; Code_JEDEC: MO-092-AC; ComponentLink1Description: DS90C031 Datasheet; ComponentLink1URL: http://www.national.com/ds/DS/DS90C031QML.pdf; ComponentLink2Description: DS90C031 Web Page; ComponentLink2URL: http://www.national.com/pf/DS/DS90C031.html; ComponentLink3Description: W16A Package Page; ComponentLink3URL: http://www.national.com/packaging/folders/w16a.html
footprint W16A (DFP; 16 Leads; Body 9.9 x 7.6 mm (LxW max); Pitch 1.27 mm)
pins: 1 DIN1 (in), 2 DO1+ (hiz), 3 DO1- (hiz), 4 EN (in), 5 DO2- (hiz), 6 DO2+ (hiz), 7 DIN2 (in), 8 GND (power), 9 DIN3 (in), 10 DO3+ (hiz), 11 DO3- (hiz), 12 ~{EN} (in), 13 DO4- (hiz), 14 DO4+ (hiz), 15 DIN4 (in), 16 VCC (power)

## DS90C032BTM
designator U?
LVDS Quad CMOS Differential Line Receiver, 16-pin Narrow SOIC; PartNumber: DS90C032BTM; Manufacturer: National Semiconductor; PackageTopMarking: NSUZXYTTE#*DS90C032BTM; PowerWise: N; CompType: Interface IC; Published: 4-Dec-2008; DatasheetVersion: Sep-2003; PackageVersion: revJ, Aug-1995; PackageReference: M16A; Publisher: Altium Limited; PackageDescription: Molded Package, SO, .150in Wide, 16 Lead; RoHS: N; PinCount: 16; Code_JEDEC: MS-012-AC; Code_IPC: SOIC127P600-16; ComponentLink1Description: DS90C032B Datasheet; ComponentLink1URL: http://www.national.com/ds/DS/DS90C032B.pdf; ComponentLink2Description: DS90C032B Web Page; ComponentLink2URL: http://www.national.com/pf/DS/DS90C032B.html; ComponentLink3Description: M16A Package Page; ComponentLink3URL: http://www.national.com/packaging/folders/m16a.html
footprint M16A_N (SOIC, 16-Leads, Body 9.9x3.9mm, Pitch 1.27mm, IPC Medium Density)
footprint M16A_L (SOIC, 16-Leads, Body 9.9x3.9mm, Pitch 1.27mm, IPC High Density)
footprint M16A_M (SOIC, 16-Leads, Body 9.9x3.9mm, Pitch 1.27mm, IPC Low Density)
pins: 1 RIN1- (in), 2 RIN1+ (in), 3 ROUT1 (hiz), 4 EN (in), 5 ROUT2 (hiz), 6 RIN2+ (in), 7 RIN2- (in), 8 GND (power), 9 RIN3- (in), 10 RIN3+ (in), 11 ROUT3 (hiz), 12 ~{EN} (in), 13 ROUT4 (hiz), 14 RIN4+ (in), 15 RIN4- (in), 16 VCC (power)

## DS90C032BTM/NOPB
designator U?
LVDS Quad CMOS Differential Line Receiver, 16-pin Narrow SOIC, Pb-Free; PartNumber: DS90C032BTM/NOPB; Manufacturer: National Semiconductor; PackageTopMarking: NSUZXYTTE#*DS90C032BTM; PowerWise: N; CompType: Interface IC; Published: 1-Mar-2010; DatasheetVersion: Sep-2003; PackageVersion: revJ, Aug-1995; PackageReference: M16A; Publisher: Altium Limited; PackageDescription: Molded Package, SO, .150in Wide, 16 Lead; Supplier 1: Digi-Key; Supplier Part Number 1: DS90C032BTM-ND; Supplier 2: Farnell; Supplier Part Number 2: 1469001; RoHS: Y; PinCount: 16; Code_JEDEC: MS-012-AC; Code_IPC: SOIC127P600-16; ComponentLink1Description: DS90C032B Datasheet; ComponentLink1URL: http://www.national.com/ds/DS/DS90C032B.pdf; ComponentLink2Description: DS90C032B Web Page; ComponentLink2URL: http://www.national.com/pf/DS/DS90C032B.html; ComponentLink3Description: M16A Package Page; ComponentLink3URL: http://www.national.com/packaging/folders/m16a.html
footprint M16A_N (SOIC, 16-Leads, Body 9.9x3.9mm, Pitch 1.27mm, IPC Medium Density)
footprint M16A_L (SOIC, 16-Leads, Body 9.9x3.9mm, Pitch 1.27mm, IPC High Density)
footprint M16A_M (SOIC, 16-Leads, Body 9.9x3.9mm, Pitch 1.27mm, IPC Low Density)
pins: 1 RIN1- (in), 2 RIN1+ (in), 3 ROUT1 (hiz), 4 EN (in), 5 ROUT2 (hiz), 6 RIN2+ (in), 7 RIN2- (in), 8 GND (power), 9 RIN3- (in), 10 RIN3+ (in), 11 ROUT3 (hiz), 12 ~{EN} (in), 13 ROUT4 (hiz), 14 RIN4+ (in), 15 RIN4- (in), 16 VCC (power)

## DS90C032BTMX
designator U?
LVDS Quad CMOS Differential Line Receiver, 16-pin Narrow SOIC; PartNumber: DS90C032BTMX; Manufacturer: National Semiconductor; PackageTopMarking: NSUZXYTTE#*DS90C032BTM; PowerWise: N; CompType: Interface IC; Published: 1-Mar-2010; DatasheetVersion: Sep-2003; PackageVersion: revJ, Aug-1995; PackageReference: M16A; Publisher: Altium Limited; PackageDescription: Molded Package, SO, .150in Wide, 16 Lead; RoHS: N; PinCount: 16; Code_JEDEC: MS-012-AC; Code_IPC: SOIC127P600-16; ComponentLink1Description: DS90C032B Datasheet; ComponentLink1URL: http://www.national.com/ds/DS/DS90C032B.pdf; ComponentLink2Description: DS90C032B Web Page; ComponentLink2URL: http://www.national.com/pf/DS/DS90C032B.html; ComponentLink3Description: M16A Package Page; ComponentLink3URL: http://www.national.com/packaging/folders/m16a.html
footprint M16A_N (SOIC, 16-Leads, Body 9.9x3.9mm, Pitch 1.27mm, IPC Medium Density)
footprint M16A_L (SOIC, 16-Leads, Body 9.9x3.9mm, Pitch 1.27mm, IPC High Density)
footprint M16A_M (SOIC, 16-Leads, Body 9.9x3.9mm, Pitch 1.27mm, IPC Low Density)
pins: 1 RIN1- (in), 2 RIN1+ (in), 3 ROUT1 (hiz), 4 EN (in), 5 ROUT2 (hiz), 6 RIN2+ (in), 7 RIN2- (in), 8 GND (power), 9 RIN3- (in), 10 RIN3+ (in), 11 ROUT3 (hiz), 12 ~{EN} (in), 13 ROUT4 (hiz), 14 RIN4+ (in), 15 RIN4- (in), 16 VCC (power)

## DS90C032TM
designator U?
LVDS Quad CMOS Differential Line Receiver, 16-pin Narrow SOIC; PartNumber: DS90C032TM; Manufacturer: National Semiconductor; PackageTopMarking: NSUZXYTTE#*DS90C032TM; PowerWise: N; CompType: Interface IC; Published: 4-Dec-2008; DatasheetVersion: May-2007; PackageVersion: revJ, Aug-1995; PackageReference: M16A; Publisher: Altium Limited; PackageDescription: Molded Package, SO, .150in Wide, 16 Lead; Supplier 1: Farnell; Supplier Part Number 1: 9490094; RoHS: N; PinCount: 16; Code_JEDEC: MS-012-AC; Code_IPC: SOIC127P600-16; ComponentLink1Description: DS90C032 Datasheet; ComponentLink1URL: http://www.national.com/ds/DS/DS90C032.pdf; ComponentLink2Description: DS90C032 Web Page; ComponentLink2URL: http://www.national.com/pf/DS/DS90C032.html; ComponentLink3Description: M16A Package Page; ComponentLink3URL: http://www.national.com/packaging/folders/m16a.html
footprint M16A_N (SOIC, 16-Leads, Body 9.9x3.9mm, Pitch 1.27mm, IPC Medium Density)
footprint M16A_L (SOIC, 16-Leads, Body 9.9x3.9mm, Pitch 1.27mm, IPC High Density)
footprint M16A_M (SOIC, 16-Leads, Body 9.9x3.9mm, Pitch 1.27mm, IPC Low Density)
pins: 1 RIN1- (in), 2 RIN1+ (in), 3 ROUT1 (hiz), 4 EN (in), 5 ROUT2 (hiz), 6 RIN2+ (in), 7 RIN2- (in), 8 GND (power), 9 RIN3- (in), 10 RIN3+ (in), 11 ROUT3 (hiz), 12 ~{EN} (in), 13 ROUT4 (hiz), 14 RIN4+ (in), 15 RIN4- (in), 16 VCC (power)

## DS90C032TM/NOPB
designator U?
LVDS Quad CMOS Differential Line Receiver, 16-pin Narrow SOIC, Pb-Free; PartNumber: DS90C032TM/NOPB; Manufacturer: National Semiconductor; PackageTopMarking: NSUZXYTTE#*DS90C032TM; PowerWise: N; CompType: Interface IC; Published: 1-Mar-2010; DatasheetVersion: May-2007; PackageVersion: revJ, Aug-1995; PackageReference: M16A; Publisher: Altium Limited; PackageDescription: Molded Package, SO, .150in Wide, 16 Lead; Supplier 1: Digi-Key; Supplier Part Number 1: DS90C032TM-ND; Supplier 2: Farnell; Supplier Part Number 2: 1469002; RoHS: Y; PinCount: 16; Code_JEDEC: MS-012-AC; Code_IPC: SOIC127P600-16; ComponentLink1Description: DS90C032 Datasheet; ComponentLink1URL: http://www.national.com/ds/DS/DS90C032.pdf; ComponentLink2Description: DS90C032 Web Page; ComponentLink2URL: http://www.national.com/pf/DS/DS90C032.html; ComponentLink3Description: M16A Package Page; ComponentLink3URL: http://www.national.com/packaging/folders/m16a.html
footprint M16A_N (SOIC, 16-Leads, Body 9.9x3.9mm, Pitch 1.27mm, IPC Medium Density)
footprint M16A_L (SOIC, 16-Leads, Body 9.9x3.9mm, Pitch 1.27mm, IPC High Density)
footprint M16A_M (SOIC, 16-Leads, Body 9.9x3.9mm, Pitch 1.27mm, IPC Low Density)
pins: 1 RIN1- (in), 2 RIN1+ (in), 3 ROUT1 (hiz), 4 EN (in), 5 ROUT2 (hiz), 6 RIN2+ (in), 7 RIN2- (in), 8 GND (power), 9 RIN3- (in), 10 RIN3+ (in), 11 ROUT3 (hiz), 12 ~{EN} (in), 13 ROUT4 (hiz), 14 RIN4+ (in), 15 RIN4- (in), 16 VCC (power)

## DS90C032TMX
designator U?
LVDS Quad CMOS Differential Line Receiver, 16-pin Narrow SOIC; PartNumber: DS90C032TMX; Manufacturer: National Semiconductor; PackageTopMarking: NSUZXYTTE#*DS90C032TM; PowerWise: N; CompType: Interface IC; Published: 1-Mar-2010; DatasheetVersion: May-2007; PackageVersion: revJ, Aug-1995; PackageReference: M16A; Publisher: Altium Limited; PackageDescription: Molded Package, SO, .150in Wide, 16 Lead; RoHS: N; PinCount: 16; Code_JEDEC: MS-012-AC; Code_IPC: SOIC127P600-16; ComponentLink1Description: DS90C032 Datasheet; ComponentLink1URL: http://www.national.com/ds/DS/DS90C032.pdf; ComponentLink2Description: DS90C032 Web Page; ComponentLink2URL: http://www.national.com/pf/DS/DS90C032.html; ComponentLink3Description: M16A Package Page; ComponentLink3URL: http://www.national.com/packaging/folders/m16a.html
footprint M16A_N (SOIC, 16-Leads, Body 9.9x3.9mm, Pitch 1.27mm, IPC Medium Density)
footprint M16A_L (SOIC, 16-Leads, Body 9.9x3.9mm, Pitch 1.27mm, IPC High Density)
footprint M16A_M (SOIC, 16-Leads, Body 9.9x3.9mm, Pitch 1.27mm, IPC Low Density)
pins: 1 RIN1- (in), 2 RIN1+ (in), 3 ROUT1 (hiz), 4 EN (in), 5 ROUT2 (hiz), 6 RIN2+ (in), 7 RIN2- (in), 8 GND (power), 9 RIN3- (in), 10 RIN3+ (in), 11 ROUT3 (hiz), 12 ~{EN} (in), 13 ROUT4 (hiz), 14 RIN4+ (in), 15 RIN4- (in), 16 VCC (power)

## DS90C032W-QMLV
designator U?
LVDS Quad CMOS Differential Line Receiver, 16-pin CerPACK; PartNumber: DS90C032W-QMLV; Manufacturer: National Semiconductor; PackageTopMarking: NSZSSXXYYA*DS90C032W-*QV Q 5962-*9583401VFA; PowerWise: N; CompType: Interface IC; High-Reliability: Y; Published: 29-May-2009; DatasheetVersion: May-2007; PackageVersion: revT, Jul-2005; PackageReference: W16A; Publisher: Altium Limited; PackageDescription: Cerpack, .390 x .250 x .074in Body, 16 Lead, .050in Pitch; RoHS: N; PinCount: 16; Code_JEDEC: MO-092-AC; ComponentLink1Description: DS90C032 Datasheet; ComponentLink1URL: http://www.national.com/ds/DS/DS90C032QML.pdf; ComponentLink2Description: DS90C032 Web Page; ComponentLink2URL: http://www.national.com/pf/DS/DS90C032.html; ComponentLink3Description: W16A Package Page; ComponentLink3URL: http://www.national.com/packaging/folders/w16a.html
footprint W16A (DFP; 16 Leads; Body 9.9 x 7.6 mm (LxW max); Pitch 1.27 mm)
pins: 1 RIN1- (in), 2 RIN1+ (in), 3 ROUT1 (hiz), 4 EN (in), 5 ROUT2 (hiz), 6 RIN2+ (in), 7 RIN2- (in), 8 GND (power), 9 RIN3- (in), 10 RIN3+ (in), 11 ROUT3 (hiz), 12 ~{EN} (in), 13 ROUT4 (hiz), 14 RIN4+ (in), 15 RIN4- (in), 16 VCC (power)

## DS90C032WGLQMLV
designator U?
LVDS Quad CMOS Differential Line Receiver, 16-pin CerPACK; PartNumber: DS90C032WGLQMLV; Manufacturer: National Semiconductor; PackageTopMarking: NSZSSXXYYA*DS90C032WGL*QV Q 5962L*9583401VZA; PowerWise: N; CompType: Interface IC; High-Reliability: Y; Published: 29-May-2009; DatasheetVersion: May-2007; PackageVersion: revE, Jul-2007; PackageReference: WG16A; Publisher: Altium Limited; PackageDescription: Cerpack, .390 x .250 x .070in, 16 Lead, .050in Pitch, Gull Wing; RoHS: N; PinCount: 16; ComponentLink1Description: DS90C032 Datasheet; ComponentLink1URL: http://www.national.com/ds/DS/DS90C032QML.pdf; ComponentLink2Description: DS90C032 Web Page; ComponentLink2URL: http://www.national.com/pf/DS/DS90C032.html; ComponentLink3Description: WG16A Package Page; ComponentLink3URL: http://www.national.com/packaging/folders/wg16a.html
footprint WG16A_N (CERPACK, 16-Leads, Body 9.9x6.5mm, Pitch 1.27mm, IPC Medium Density)
footprint WG16A_L (CERPACK, 16-Leads, Body 9.9x6.5mm, Pitch 1.27mm, IPC High Density)
footprint WG16A_M (CERPACK, 16-Leads, Body 9.9x6.5mm, Pitch 1.27mm, IPC Low Density)
pins: 1 RIN1- (in), 2 RIN1+ (in), 3 ROUT1 (hiz), 4 EN (in), 5 ROUT2 (hiz), 6 RIN2+ (in), 7 RIN2- (in), 8 GND (power), 9 RIN3- (in), 10 RIN3+ (in), 11 ROUT3 (hiz), 12 ~{EN} (in), 13 ROUT4 (hiz), 14 RIN4+ (in), 15 RIN4- (in), 16 VCC (power)

## DS90C032WLQMLV
designator U?
LVDS Quad CMOS Differential Line Receiver, 16-pin CerPACK; PartNumber: DS90C032WLQMLV; Manufacturer: National Semiconductor; PackageTopMarking: NSZSSXXYYA*DS90C032WL*QV Q 5962L*9583401VFA; PowerWise: N; CompType: Interface IC; High-Reliability: Y; Published: 29-May-2009; DatasheetVersion: May-2007; PackageVersion: revT, Jul-2005; PackageReference: W16A; Publisher: Altium Limited; PackageDescription: Cerpack, .390 x .250 x .074in Body, 16 Lead, .050in Pitch; RoHS: N; PinCount: 16; Code_JEDEC: MO-092-AC; ComponentLink1Description: DS90C032 Datasheet; ComponentLink1URL: http://www.national.com/ds/DS/DS90C032QML.pdf; ComponentLink2Description: DS90C032 Web Page; ComponentLink2URL: http://www.national.com/pf/DS/DS90C032.html; ComponentLink3Description: W16A Package Page; ComponentLink3URL: http://www.national.com/packaging/folders/w16a.html
footprint W16A (DFP; 16 Leads; Body 9.9 x 7.6 mm (LxW max); Pitch 1.27 mm)
pins: 1 RIN1- (in), 2 RIN1+ (in), 3 ROUT1 (hiz), 4 EN (in), 5 ROUT2 (hiz), 6 RIN2+ (in), 7 RIN2- (in), 8 GND (power), 9 RIN3- (in), 10 RIN3+ (in), 11 ROUT3 (hiz), 12 ~{EN} (in), 13 ROUT4 (hiz), 14 RIN4+ (in), 15 RIN4- (in), 16 VCC (power)

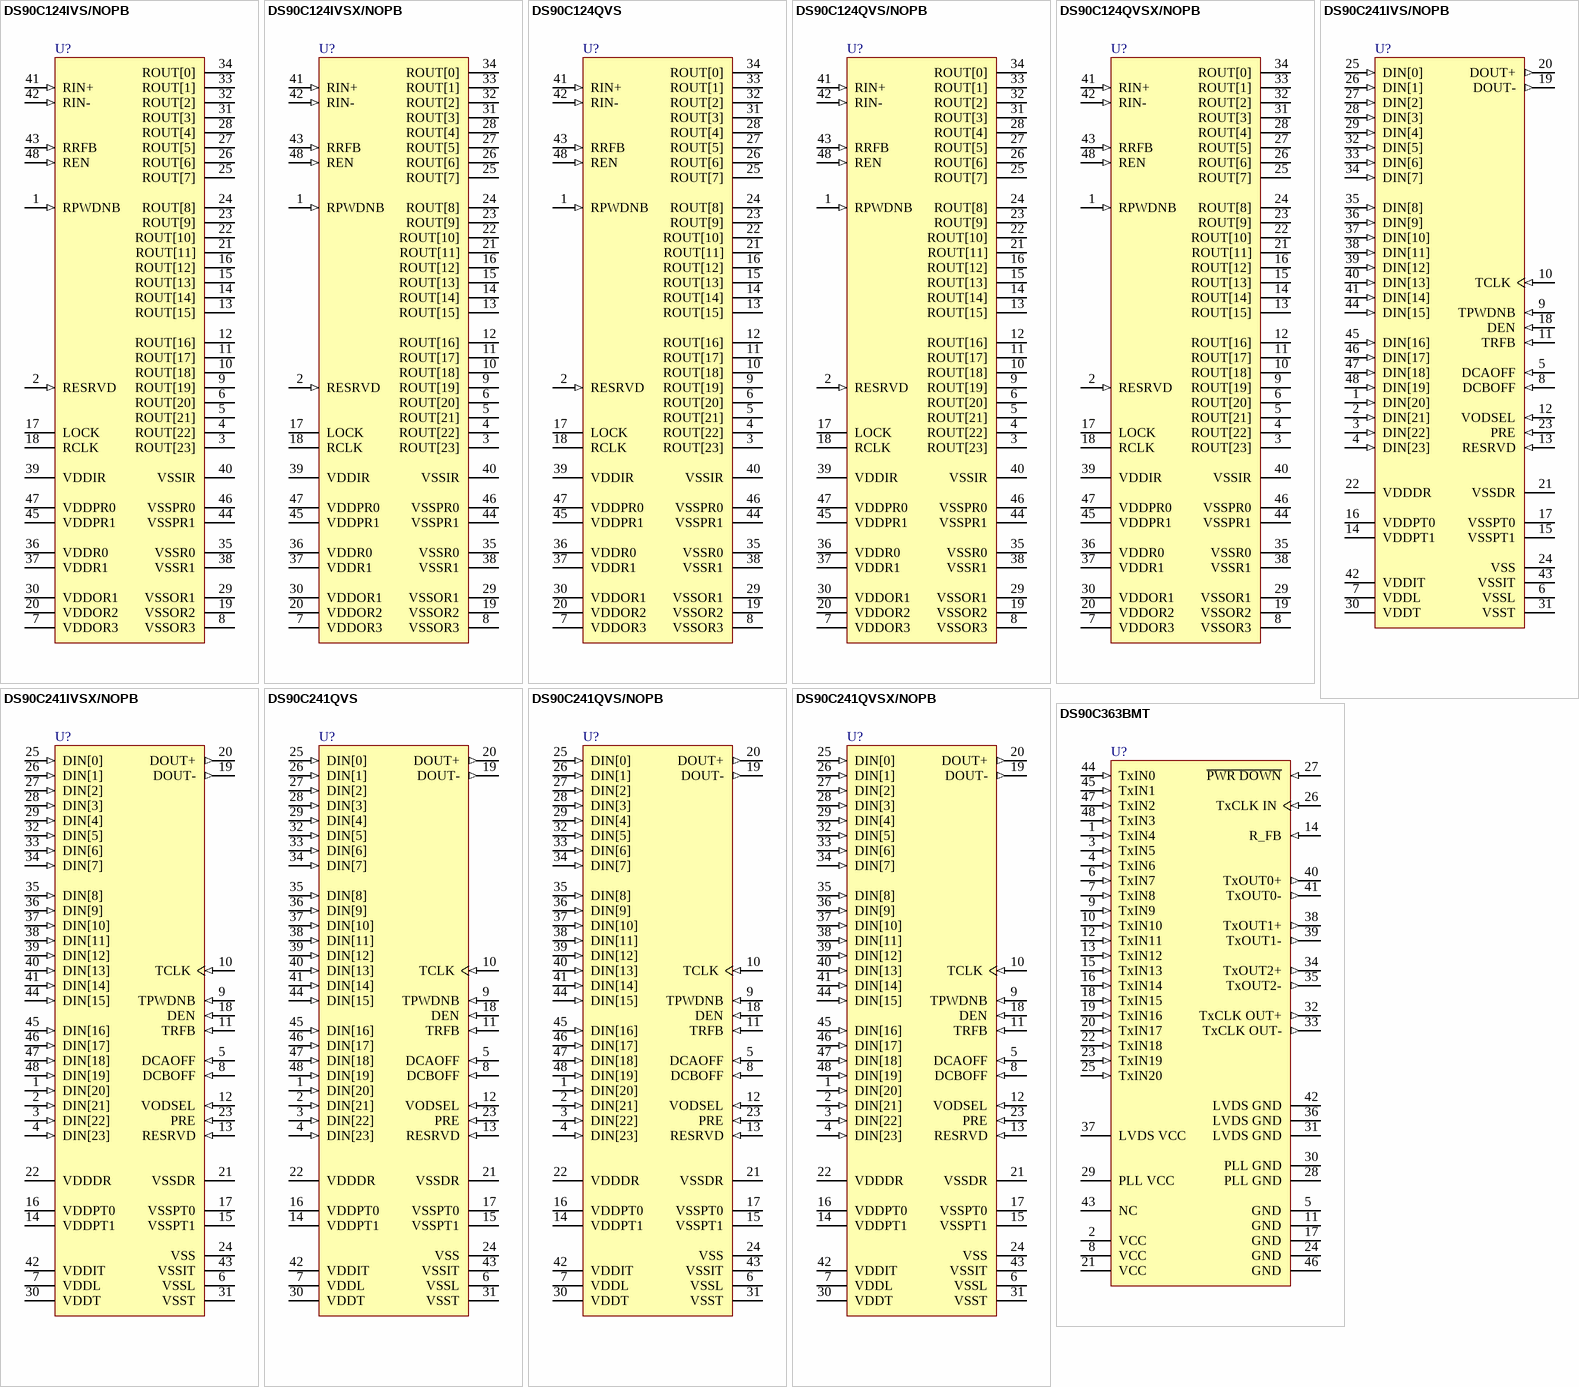
[diagram p27: symbols DS90C124IVS/NOPB to DS90C363BMT]

## DS90C124IVS/NOPB
designator U?
5-35MHz DC- Balanced 24-Bit FPD-Link II Deserializer, 48 pin TQFP; PartNumber: DS90C124IVS/NOPB; Manufacturer: National Semiconductor; PackageTopMarking: NSUZXYTT*DS90C124*IVS; PowerWise: N; CompType: Interface IC; Published: 16-Nov-2010; DatasheetVersion: Aug-2009; PackageVersion: revA, Apr-2000; PackageReference: VBC48A; Publisher: Altium Limited; PackageDescription: TQFP, Jedec Metric, 7 x 7 x 1mm, 48 Lead, 0.5mm Pitch; Supplier 1: Digi-Key; Supplier Part Number 1: DS90C124IVS-ND; Supplier 2: Farnell; Supplier Part Number 2: 1654916; RoHS: Y; PinCount: 48; Code_JEDEC: MS-026-ABC; ComponentLink1Description: DS90C124 Datasheet; ComponentLink1URL: http://www.national.com/ds/DS/DS90C124.pdf; ComponentLink2Description: DS90C124 Web Page; ComponentLink2URL: http://www.national.com/pf/DS/DS90C124.html; ComponentLink3Description: VBC48A Package Page; ComponentLink3URL: http://www.national.com/packaging/folders/vbc48a.html
footprint VBC48A_N (Thin QFP, 48-Leads, Body 7x7mm, Pitch 0.5mm, IPC Medium Density)
footprint VBC48A_L (Thin QFP, 48-Leads, Body 7x7mm, Pitch 0.5mm, IPC High Density)
footprint VBC48A_M (Thin QFP, 48-Leads, Body 7x7mm, Pitch 0.5mm, IPC Low Density)
pins: 1 RPWDNB (in), 2 RESRVD (in), 3 ROUT[23] (hiz), 4 ROUT[22] (hiz), 5 ROUT[21] (hiz), 6 ROUT[20] (hiz), 7 VDDOR3 (power), 8 VSSOR3 (power), 9 ROUT[19] (hiz), 10 ROUT[18] (hiz), 11 ROUT[17] (hiz), 12 ROUT[16] (hiz), 13 ROUT[15] (hiz), 14 ROUT[14] (hiz), 15 ROUT[13] (hiz), 16 ROUT[12] (hiz), 17 LOCK (hiz), 18 RCLK (hiz), 19 VSSOR2 (power), 20 VDDOR2 (power), 21 ROUT[11] (hiz), 22 ROUT[10] (hiz), 23 ROUT[9] (hiz), 24 ROUT[8] (hiz), 25 ROUT[7] (hiz), 26 ROUT[6] (hiz), 27 ROUT[5] (hiz), 28 ROUT[4] (hiz), 29 VSSOR1 (power), 30 VDDOR1 (power), 31 ROUT[3] (hiz), 32 ROUT[2] (hiz), 33 ROUT[1] (hiz), 34 ROUT[0] (hiz), 35 VSSR0 (power), 36 VDDR0 (power), 37 VDDR1 (power), 38 VSSR1 (power), 39 VDDIR (power), 40 VSSIR (power), 41 RIN+ (in), 42 RIN- (in), 43 RRFB (in), 44 VSSPR1 (power), 45 VDDPR1 (power), 46 VSSPR0 (power), 47 VDDPR0 (power), 48 REN (in)

## DS90C124IVSX/NOPB
designator U?
5-35MHz DC- Balanced 24-Bit FPD-Link II Deserializer, 48 pin TQFP; PartNumber: DS90C124IVSX/NOPB; Manufacturer: National Semiconductor; PackageTopMarking: NSUZXYTT*DS90C124*IVS; PowerWise: N; CompType: Interface IC; Published: 16-Nov-2010; DatasheetVersion: Aug-2009; PackageVersion: revA, Apr-2000; PackageReference: VBC48A; Publisher: Altium Limited; PackageDescription: TQFP, Jedec Metric, 7 x 7 x 1mm, 48 Lead, 0.5mm Pitch; Supplier 1: Digi-Key; Supplier Part Number 1: DS90C124IVSX-ND; RoHS: Y; PinCount: 48; Code_JEDEC: MS-026-ABC; ComponentLink1Description: DS90C124 Datasheet; ComponentLink1URL: http://www.national.com/ds/DS/DS90C124.pdf; ComponentLink2Description: DS90C124 Web Page; ComponentLink2URL: http://www.national.com/pf/DS/DS90C124.html; ComponentLink3Description: VBC48A Package Page; ComponentLink3URL: http://www.national.com/packaging/folders/vbc48a.html
footprint VBC48A_N (Thin QFP, 48-Leads, Body 7x7mm, Pitch 0.5mm, IPC Medium Density)
footprint VBC48A_L (Thin QFP, 48-Leads, Body 7x7mm, Pitch 0.5mm, IPC High Density)
footprint VBC48A_M (Thin QFP, 48-Leads, Body 7x7mm, Pitch 0.5mm, IPC Low Density)
pins: 1 RPWDNB (in), 2 RESRVD (in), 3 ROUT[23] (hiz), 4 ROUT[22] (hiz), 5 ROUT[21] (hiz), 6 ROUT[20] (hiz), 7 VDDOR3 (power), 8 VSSOR3 (power), 9 ROUT[19] (hiz), 10 ROUT[18] (hiz), 11 ROUT[17] (hiz), 12 ROUT[16] (hiz), 13 ROUT[15] (hiz), 14 ROUT[14] (hiz), 15 ROUT[13] (hiz), 16 ROUT[12] (hiz), 17 LOCK (hiz), 18 RCLK (hiz), 19 VSSOR2 (power), 20 VDDOR2 (power), 21 ROUT[11] (hiz), 22 ROUT[10] (hiz), 23 ROUT[9] (hiz), 24 ROUT[8] (hiz), 25 ROUT[7] (hiz), 26 ROUT[6] (hiz), 27 ROUT[5] (hiz), 28 ROUT[4] (hiz), 29 VSSOR1 (power), 30 VDDOR1 (power), 31 ROUT[3] (hiz), 32 ROUT[2] (hiz), 33 ROUT[1] (hiz), 34 ROUT[0] (hiz), 35 VSSR0 (power), 36 VDDR0 (power), 37 VDDR1 (power), 38 VSSR1 (power), 39 VDDIR (power), 40 VSSIR (power), 41 RIN+ (in), 42 RIN- (in), 43 RRFB (in), 44 VSSPR1 (power), 45 VDDPR1 (power), 46 VSSPR0 (power), 47 VDDPR0 (power), 48 REN (in)